# Altium schematic symbol library TPS563203DRLR.SchLib: 2 symbols
Pins are listed as number, name and electrical type; pins without a type are passive.

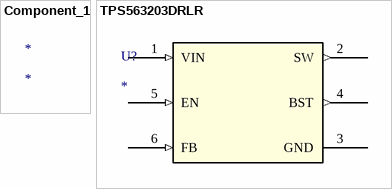
[diagram p0: symbols Component_1 to TPS563203DRLR]

## Component_1
designator *

## TPS563203DRLR
designator U?
No Description Available; Mfr_Name: Texas Instruments; Type: Power Management; RefDes: RefDes
footprint SOT_07SDRLR_TEX
pins: 1 VIN (in), 2 SW (out), 3 GND (power), 4 BST (out), 5 EN (in), 6 FB (in)